# EAGLE library part LED2001 (library fmc)
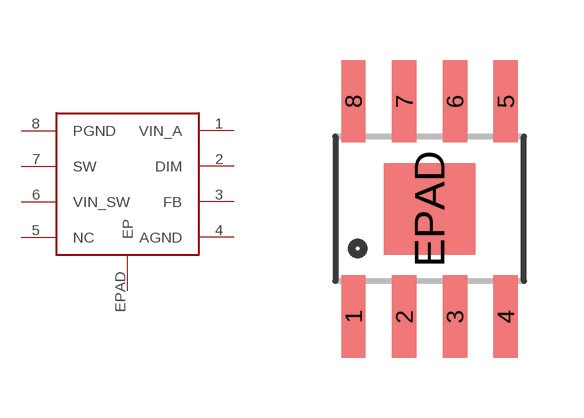
[diagram p0: symbol with the pads of SO08_PWR; footprint SO08_PWR]

Designator prefix -

## LED2001  [SO08_PWR]
1  VIN_A
2  DIM
3  FB
4  AGND
5  NC
6  VIN_SW
7  SW
8  PGND
EPAD  EP

## Footprint SO08_PWR (pad centres in mm)
smd 0.61 x 2.057: 1 -1.905,-2.692; 2 -0.635,-2.692; 3 0.635,-2.692; 4 1.905,-2.692; 5 1.905,2.692; 6 0.635,2.692; 7 -0.635,2.692; 8 -1.905,2.692
smd 2.286 x 2.286: EPAD 0,0